# EAGLE library part SI5515CDC (library Parts for D-DAQ)
Dual MOSFET Top Mosfet, 1, is N-Channel Bottom Mosfet, 2, is P-Channel
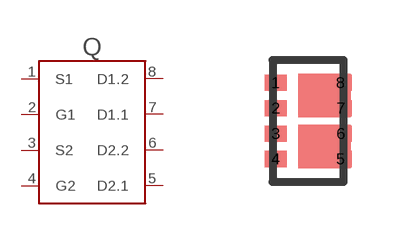
[diagram p14: symbol with the pads of 1206-8; footprint 1206-8]

Designator prefix Q

## SI5515CDC  [1206-8]
1  S1  pas
2  G1  pas
3  S2  pas
4  G2  pas
5  D2.1  pas
6  D2.2  pas
7  D1.1  pas
8  D1.2  pas

## Footprint 1206-8 (pad centres in mm)
smd 0.559 x 0.406: 1 -0.813,0.953; 2 -0.813,0.318; 3 -0.813,-0.318; 4 -0.813,-0.953; 5 0.813,-0.953; 6 0.813,-0.318; 7 0.813,0.318; 8 0.813,0.953